# EAGLE library part NINA-W102 (library SamacSys_Parts)
STAND-ALONE MULTIRADIO MODULE Source: Datasheet <https://www.u-blox.com/sites/default/files/NINA-W10_DataSheet_(UBX-17065507).pdf>
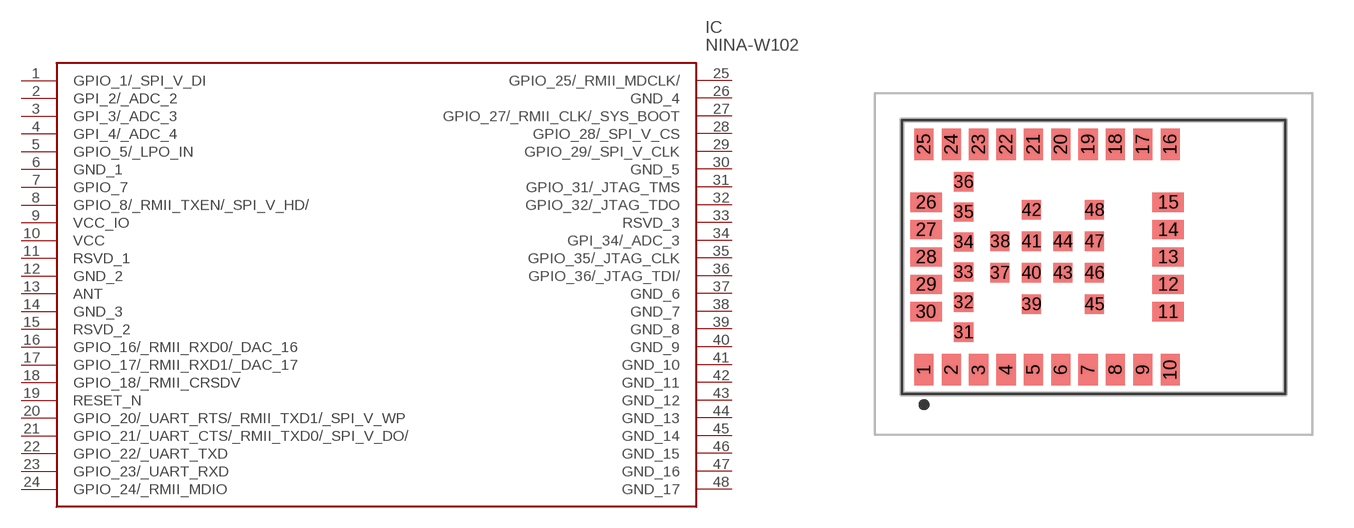
[diagram p12: symbol with the pads of NINAW102; footprint NINAW102]

Designator prefix IC

## NINA-W102 (DESCRIPTION: STAND-ALONE MULTIRADIO MODULE; HEIGHT: 3mm; MANUFACTURER_NAME: U-Blox; MANUFACTURER_PART_NUMBER: NINA-W102)  [NINAW102]
1  GPIO_1/_SPI_V_DI
2  GPI_2/_ADC_2
3  GPI_3/_ADC_3
4  GPI_4/_ADC_4
5  GPIO_5/_LPO_IN
6  GND_1
7  GPIO_7
8  GPIO_8/_RMII_TXEN/_SPI_V_HD/
9  VCC_IO
10  VCC
11  RSVD_1
12  GND_2
13  ANT
14  GND_3
15  RSVD_2
16  GPIO_16/_RMII_RXD0/_DAC_16
17  GPIO_17/_RMII_RXD1/_DAC_17
18  GPIO_18/_RMII_CRSDV
19  RESET_N
20  GPIO_20/_UART_RTS/_RMII_TXD1/_SPI_V_WP
21  GPIO_21/_UART_CTS/_RMII_TXD0/_SPI_V_DO/
22  GPIO_22/_UART_TXD
23  GPIO_23/_UART_RXD
24  GPIO_24/_RMII_MDIO
25  GPIO_25/_RMII_MDCLK/
26  GND_4
27  GPIO_27/_RMII_CLK/_SYS_BOOT
28  GPIO_28/_SPI_V_CS
29  GPIO_29/_SPI_V_CLK
30  GND_5
31  GPIO_31/_JTAG_TMS
32  GPIO_32/_JTAG_TDO
33  RSVD_3
34  GPI_34/_ADC_3
35  GPIO_35/_JTAG_CLK
36  GPIO_36/_JTAG_TDI/
37  GND_6
38  GND_7
39  GND_8
40  GND_9
41  GND_10
42  GND_11
43  GND_12
44  GND_13
45  GND_14
46  GND_15
47  GND_16
48  GND_17

## Footprint NINAW102 (pad centres in mm)
NINA-W102
smd 0.7 x 1.15: 1 -6.2,-3.875; 2 -5.2,-3.875; 3 -4.2,-3.875; 4 -3.2,-3.875; 5 -2.2,-3.875; 6 -1.2,-3.875; 7 -0.2,-3.875; 8 0.8,-3.875; 9 1.8,-3.875; 10 2.8,-3.875; 16 2.8,4.375; 17 1.8,4.375; 18 0.8,4.375; 19 -0.2,4.375; 20 -1.2,4.375; 21 -2.2,4.375; 22 -3.2,4.375; 23 -4.2,4.375; 24 -5.2,4.375; 25 -6.2,4.375
smd 1.15 x 0.7: 11 2.725,-1.75; 12 2.725,-0.75; 13 2.725,0.25; 14 2.725,1.25; 15 2.725,2.25; 26 -6.125,2.25; 27 -6.125,1.25; 28 -6.125,0.25; 29 -6.125,-0.75; 30 -6.125,-1.75
smd 0.7 x 0.7: 31 -4.75,-2.5; 32 -4.75,-1.4; 33 -4.75,-0.3; 34 -4.75,0.8; 35 -4.75,1.9; 36 -4.75,3; 37 -3.42,-0.325; 38 -3.42,0.825; 39 -2.27,-1.475; 40 -2.27,-0.325; 41 -2.27,0.825; 42 -2.27,1.975; 43 -1.12,-0.325; 44 -1.12,0.825; 45 0.03,-1.475; 46 0.03,-0.325; 47 0.03,0.825; 48 0.03,1.975